# Altium schematic symbol library condesator1.SchLib: 1 symbol
Pins are listed as number, name and electrical type; pins without a type are passive.

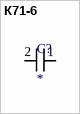
[diagram p0: symbol К71-6]

## К71-6
designator С?  (mechanical)
footprint K71 – 6 (C?)
pins: 1, 2